# EAGLE library part 621X20242921 (library Board-to-Board (rev18a))
WR-PHD 2.00mm Dual SMT Socket Header, 20 Pins=>Code : Con_BTB_SHD_2.00_2_621x20242921(Packaging:x = 0: Tube x = 3: Tape & Reel with Cap; 600 pcs/Reel) <http://katalog.we-online.de/media/images/v2/Family_Dual_Socket_Header_WR-PHD_6130xx242921.jpg> 6210xx242921 Details see: http://katalog.we-online.de/en/em/PHD_2_00_SMT_DUAL_SOCKET_HEADER_6210XX242921 6213xx242921 Details see: http://katalog.we-online.de/en/em/PHD_2_00_SMT_DUAL_SOCKET_HEADER_REEL_6213XX242921 2014 (C) Würth Elektronik
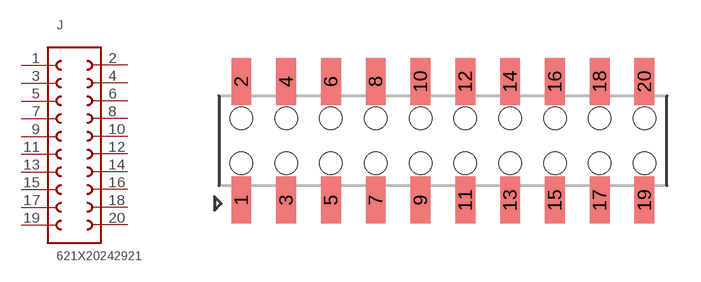
[diagram p260: symbol with the pads of 621X20242921; footprint 621X20242921]

Designator prefix J

## 621X20242921  [621X20242921]
1  1  pas
2  20  pas
3  2  pas
4  19  pas
5  3  pas
6  18  pas
7  4  pas
8  17  pas
9  5  pas
10  16  pas
11  6  pas
12  15  pas
13  7  pas
14  14  pas
15  8  pas
16  13  pas
17  9  pas
18  12  pas
19  10  pas
20  11  pas

## Footprint 621X20242921 (pad centres in mm)
WR-PHD 2.00mm Dual SMT Socket Header, 20 Pins
smd 0.89 x 2.1: 1 -9,-2.65; 2 -9,2.65; 3 -7,-2.65; 4 -7,2.65; 5 -5,-2.65; 6 -5,2.65; 7 -3,-2.65; 8 -3,2.65; 9 -1,-2.65; 10 -1,2.65; 11 1,-2.65; 12 1,2.65; 13 3,-2.65; 14 3,2.65; 15 5,-2.65; 16 5,2.65; 17 7,-2.65; 18 7,2.65; 19 9,-2.65; 20 9,2.65
hole 1 at -9,1
hole 1 at -7,1
hole 1 at -7,-1
hole 1 at -9,-1
hole 1 at -5,1
hole 1 at -5,-1
hole 1 at -3,-1
hole 1 at -3,1
hole 1 at -1,1
hole 1 at -1,-1
hole 1 at 1,-1
hole 1 at 3,-1
hole 1 at 3,1
hole 1 at 1,1
hole 1 at 5,1
hole 1 at 7,1
hole 1 at 7,-1
hole 1 at 5,-1
hole 1 at 9,1
hole 1 at 9,-1